# Altium footprint library PCB - CONNECTOR - MOLEX - MOLEX 0353180420.PcbLib: 1 footprints
Each footprint in its own frame and in the unit in brackets; x right, y up, seen from the top. Pads: shape width x height; smd on the part's side, far side on the other; paste and mask are expansions set on the pad; w line width, h text height; cw(c..) or ccw(c..) is an arc to the next point about the centre after c.
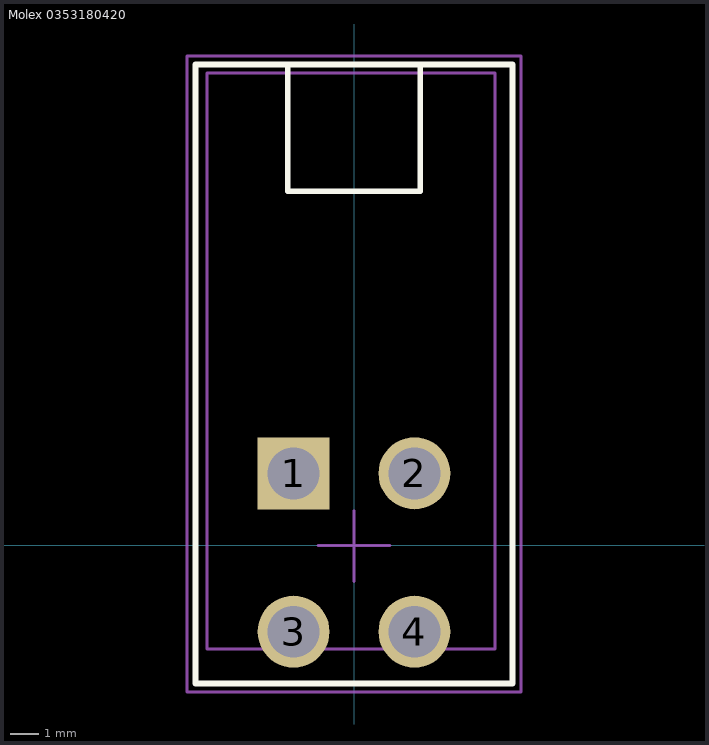
[diagram p0: the footprint, top view; thin cyan lines are the x and y axes]

## Molex 0353180420 [mm] "4 Position Header"
height 9.6
pads (4):
  rect 2.5x2.5 hole 1.8: 1(-2.1,2.5)
  round 2.5 hole 1.8: 2(2.1,2.5) 3(-2.1,-3) 4(2.1,-3)
Top Overlay:
  lines w0.2: -2.3,16.7 2.3,16.7 ; -2.3,16.7 -5.5,16.7 -5.5,-4.8 5.5,-4.8 5.5,16.7 2.3,16.7 ; -2.3,16.7 -2.3,12.3 2.3,12.3 2.3,16.7
Mechanical 13:
  lines w0.1: -5.1,-3.6 -5.1,16.4 4.9,16.4 4.9,-3.6 -5.1,-3.6
Mechanical 15 (Mech15):
  lines w0.1: -1.25,0 0,0 ; 0,-1.25 0,0 ; 0,1.2 0,0 ; 1.25,0 0,0 ; -5.8,-5.1 5.8,-5.1 5.8,17 -5.8,17 -5.8,-5.1
3D body "353180420.stp": height 11.65, standoff -3.75, extent -5.1,-3.567 4.9,16.367